# EAGLE library part PROMICRO (library promicro)
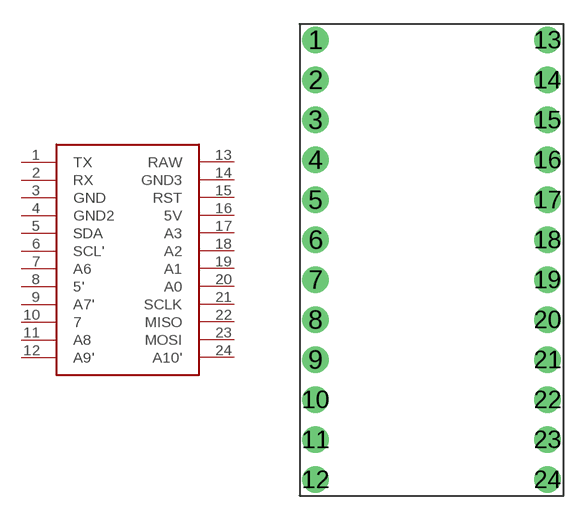
[diagram p0: symbol with the pads of PROMICRO; footprint PROMICRO]

Designator prefix U

## PROMICRO  [PROMICRO]
1  TX
2  RX
3  GND
4  GND2
5  SDA
6  SCL'
7  A6
8  5'
9  A7'
10  7
11  A8
12  A9'
13  RAW
14  GND3
15  RST
16  5V
17  A3
18  A2
19  A1
20  A0
21  SCLK
22  MISO
23  MOSI
24  A10'

## Footprint PROMICRO (pad centres in mm)
drill 0.8 pad 1.676: 1 -7,9.5; 2 -7,7; 3 -7,4.5; 4 -7,2; 5 -7,-0.5; 6 -7,-3; 7 -7,-5.5; 8 -7,-8; 9 -7,-10.5; 10 -7,-13; 11 -7,-15.5; 12 -7,-18; 13 7.5,9.5; 14 7.5,7; 15 7.5,4.5; 16 7.5,2; 17 7.5,-0.5; 18 7.5,-3; 19 7.5,-5.5; 20 7.5,-8; 21 7.5,-10.5; 22 7.5,-13; 23 7.5,-15.5; 24 7.5,-18